# Altium footprint library CUI.PcbLib: 1 footprints
Each footprint in its own frame and in the unit in brackets; x right, y up, seen from the top. Pads: shape width x height; smd on the part's side, far side on the other; paste and mask are expansions set on the pad; w line width, h text height; cw(c..) or ccw(c..) is an arc to the next point about the centre after c.
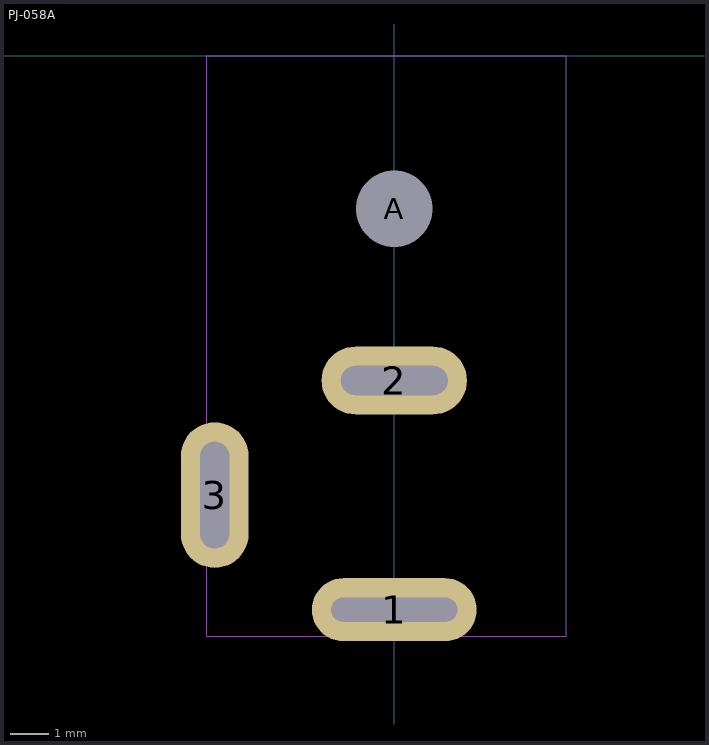
[diagram p0: the footprint, top view; thin cyan lines are the x and y axes]

## PJ-058A [mm] "DC POWER JACK"
pads (4):
  oval 4.318x1.651 hole 0.635 slot 3.302 at 0 deg: 1(0,-14.5)
  oval 3.81x1.778 hole 0.762 slot 2.794 at 0 deg: 2(0,-8.5)
  oval 1.778x3.81 hole 0.762 slot 2.794 at 90 deg: 3(-4.7,-11.5)
  round 1 hole 2 unplated: A(0,-4)
Top Designator:
  text ".Designator" at -3.242,-6.667 h0.89
Top Component Outline:
  lines w0.025: -4.903,-15.2 4.497,-15.2 4.497,0 -4.903,0 -4.903,-15.2
3D body "PJ-058A.stp": height 11, standoff -3.5, extent -4.903,-15.2 4.497,0